# Altium footprint library TP MMDC.PcbLib: 1 footprints
Each footprint in its own frame and in the unit in brackets; x right, y up, seen from the top. Pads: shape width x height; smd on the part's side, far side on the other; paste and mask are expansions set on the pad; w line width, h text height; cw(c..) or ccw(c..) is an arc to the next point about the centre after c.
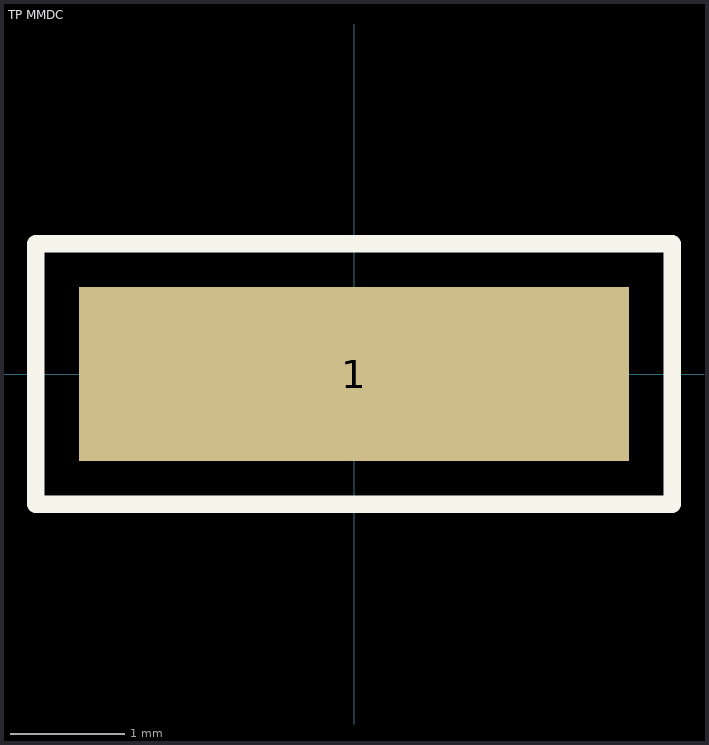
[diagram p0: the footprint, top view; thin cyan lines are the x and y axes]

## TP MMDC [mil]
pads (1):
  rect 190x60 smd paste-200: 1(0,0)
Top Overlay:
  lines w6: -110,-45 110,-45 110,45 -110,45 -110,-45
3D body: height 0, standoff 0, extent -110,-45 110,45